# Altium footprint library Header-2.54mm-2X2-M-V.PcbLib: 1 footprints
Each footprint in its own frame and in the unit in brackets; x right, y up, seen from the top. Pads: shape width x height; smd on the part's side, far side on the other; paste and mask are expansions set on the pad; w line width, h text height; cw(c..) or ccw(c..) is an arc to the next point about the centre after c.
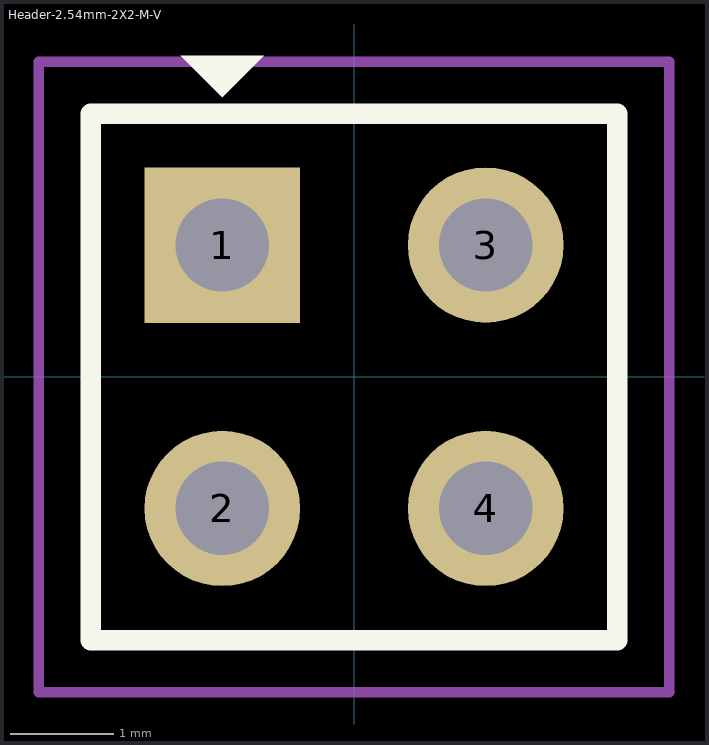
[diagram p0: the footprint, top view; thin cyan lines are the x and y axes]

## Header-2.54mm-2X2-M-V [mm]
pads (4):
  rect 1.5x1.5 hole 0.9: 1(-1.27,1.27)
  round 1.5 hole 0.9: 2(-1.27,-1.27) 3(1.27,1.27) 4(1.27,-1.27)
Top Overlay:
  region: -1.67,3.095 -0.87,3.095 -1.27,2.695
  lines w0.2: -2.54,-2.543 2.54,-2.543 2.54,-0.003 2.54,2.537 -2.54,2.537 -2.54,-0.003 -2.54,-2.543
Top Courtyard:
  lines w0.1: -3.04,-3.043 -3.04,3.037 3.04,3.037 3.04,-3.043 -2.54,-3.043 -3.04,-3.043
3D body: height 3, standoff 0, extent -2.007,-2.007 -0.533,-0.533
3D body: height 3, standoff 0, extent 0.533,-2.007 2.007,-0.533
3D body "Pin Header Male 01x01 P2.54mm.stp": height 8.34, standoff -3.05, extent 0,-2.542 2.54,-0.002
3D body "Pin Header Male 01x01 P2.54mm.stp": height 8.34, standoff -3.05, extent -2.54,-2.542 0,-0.002
3D body: height 3, standoff 0, extent -2.007,0.533 -0.533,2.007
3D body: height 3, standoff 0, extent 0.533,0.533 2.007,2.007
3D body "Pin Header Male 01x01 P2.54mm.stp": height 8.34, standoff -3.05, extent 0,-0.002 2.54,2.538
3D body "Pin Header Male 01x01 P2.54mm.stp": height 8.34, standoff -3.05, extent -2.54,-0.002 0,2.538